# EAGLE library part LT1513 (library watchplb)
Battery Charger Buck/Boost
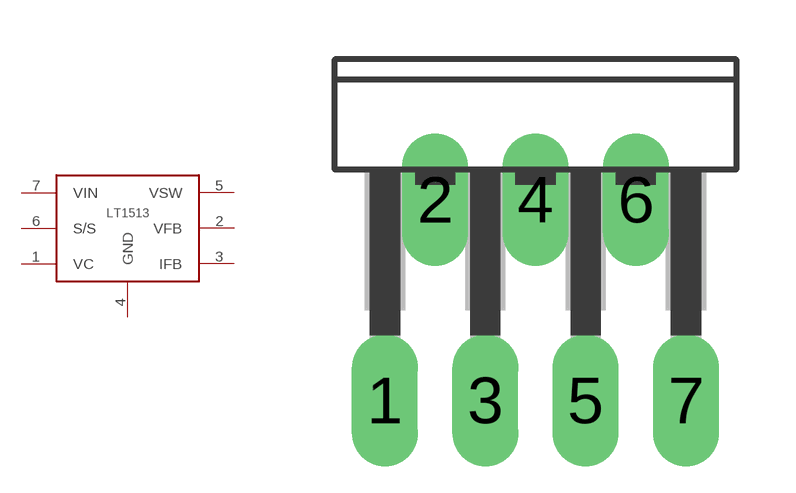
[diagram p3: symbol with the pads of TO220-7; footprint TO220-7]

Designator prefix -

## LT1513  [TO220-7]
1  VC
2  VFB
3  IFB
4  GND
5  VSW
6  S/S
7  VIN

## Footprint TO220-7 (pad centres in mm)
Molded Package
drill 1.118 pad 1.626 long: 1 -3.81,-8.636; 2 -2.54,-3.556; 3 -1.27,-8.636; 4 0,-3.556; 5 1.27,-8.636; 6 2.54,-3.556; 7 3.81,-8.636